# Altium schematic symbol library RiscPC_VRAM_16bit.SchLib: 3 symbols
Pins are listed as number, name and electrical type; pins without a type are passive.

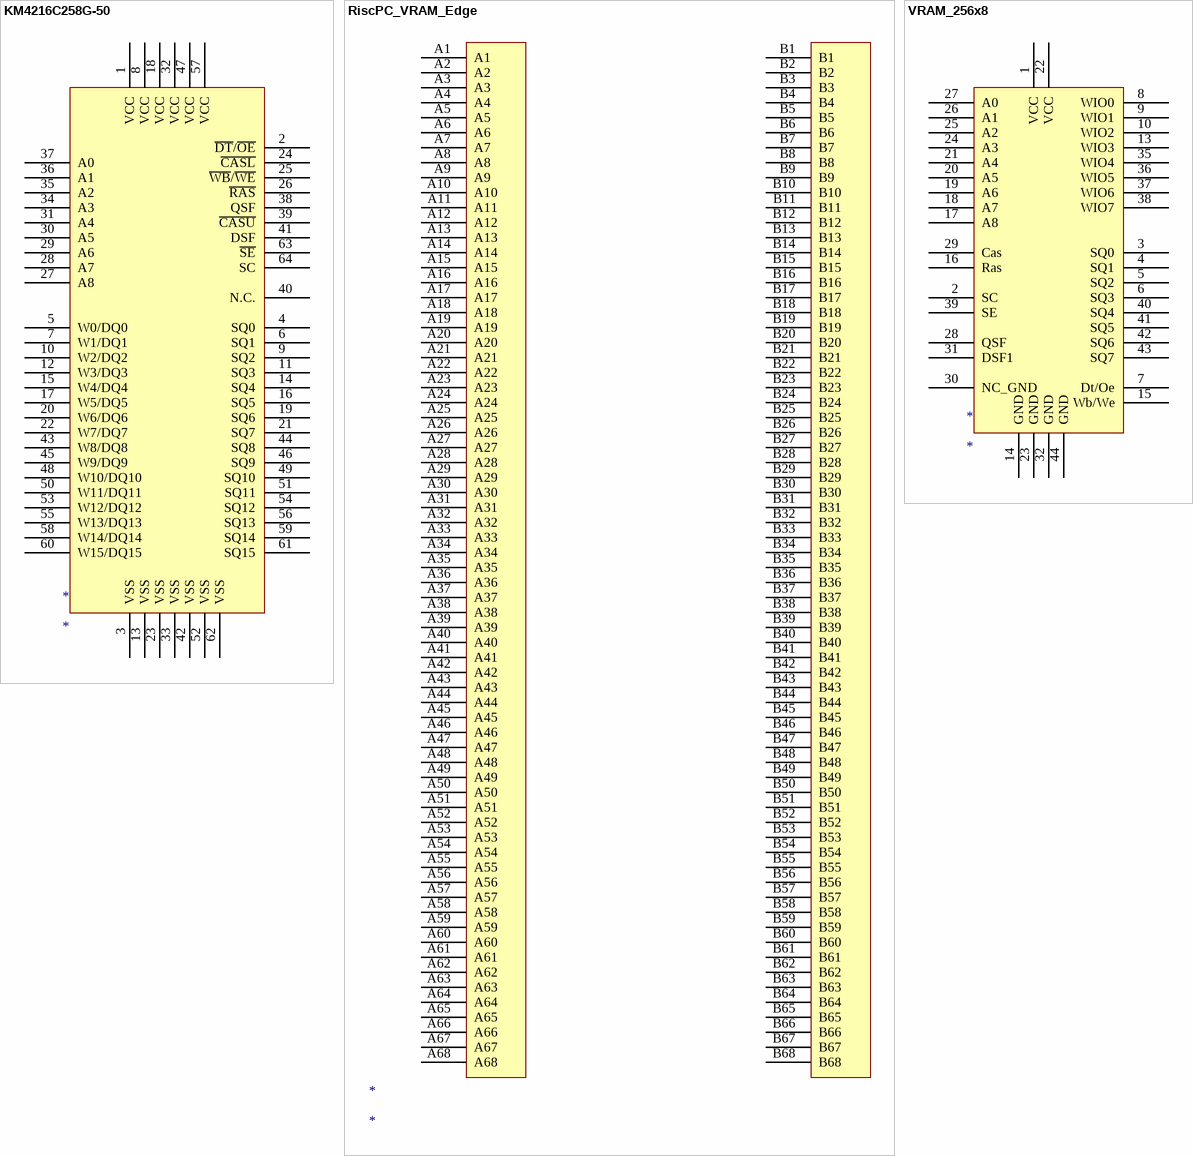
[diagram p0: symbols KM4216C258G-50 to VRAM_256x8]

## KM4216C258G-50
designator *
footprint KM4216C258G-50_SSOP64
pins: 1 VCC, 2 ~{DT}/~{OE}, 3 VSS, 4 SQ0, 5 W0/DQ0, 6 SQ1, 7 W1/DQ1, 8 VCC, 9 SQ2, 10 W2/DQ2, 11 SQ3, 12 W3/DQ3, 13 VSS, 14 SQ4, 15 W4/DQ4, 16 SQ5, 17 W5/DQ5, 18 VCC, 19 SQ6, 20 W6/DQ6, 21 SQ7, 22 W7/DQ7, 23 VSS, 24 ~{CASL}, 25 ~{WB}/~{WE}, 26 ~{RAS}, 27 A8, 28 A7, 29 A6, 30 A5, 31 A4, 32 VCC, 33 VSS, 34 A3, 35 A2, 36 A1, 37 A0, 38 QSF, 39 ~{CASU}, 40 N.C., 41 DSF, 42 VSS, 43 W8/DQ8, 44 SQ8, 45 W9/DQ9, 46 SQ9, 47 VCC, 48 W10/DQ10, 49 SQ10, 50 W11/DQ11, 51 SQ11, 52 VSS, 53 W12/DQ12, 54 SQ12, 55 W13/DQ13, 56 SQ13, 57 VCC, 58 W14/DQ14, 59 SQ14, 60 W15/DQ15, 61 SQ15, 62 VSS, 63 ~{SE}, 64 SC

## RiscPC_VRAM_Edge
designator *
footprint RiscPC_VRAM_Edge
pins: A1, A2, A3, A4, A5, A6, A7, A8, A9, A10, A11, A12, A13, A14, A15, A16, A17, A18, A19, A20, A21, A22, A23, A24, A25, A26, A27, A28, A29, A30, A31, A32, A33, A34, A35, A36, A37, A38, A39, A40, A41, A42, A43, A44, A45, A46, A47, A48, A49, A50, A51, A52, A53, A54, A55, A56, A57, A58, A59, A60, A61, A62, A63, A64, A65, A66, A67, A68, B1, B2, B3, B4, B5, B6, B7, B8, B9, B10, B11, B12, B13, B14, B15, B16, B17, B18, B19, B20, B21, B22, B23, B24, B25, B26, B27, B28, B29, B30, B31, B32, B33, B34, B35, B36, B37, B38, B39, B40, B41, B42, B43, B44, B45, B46, B47, B48, B49, B50, B51, B52, B53, B54, B55, B56, B57, B58, B59, B60, B61, B62, B63, B64, B65, B66, B67, B68

## VRAM_256x8
designator *
footprint TSOP044-P-0400-1
pins: 1 VCC, 2 SC, 3 SQ0, 4 SQ1, 5 SQ2, 6 SQ3, 7 Dt/Oe, 8 WIO0, 9 WIO1, 10 WIO2, 13 WIO3, 14 GND, 15 Wb/We, 16 Ras, 17 A8, 18 A7, 19 A6, 20 A5, 21 A4, 22 VCC, 23 GND, 24 A3, 25 A2, 26 A1, 27 A0, 28 QSF, 29 Cas, 30 NC_GND, 31 DSF1, 32 GND, 35 WIO4, 36 WIO5, 37 WIO6, 38 WIO7, 39 SE, 40 SQ4, 41 SQ5, 42 SQ6, 43 SQ7, 44 GND